# Altium footprint library BTM222.PcbLib: 1 footprints
Each footprint in its own frame and in the unit in brackets; x right, y up, seen from the top. Pads: shape width x height; smd on the part's side, far side on the other; paste and mask are expansions set on the pad; w line width, h text height; cw(c..) or ccw(c..) is an arc to the next point about the centre after c.
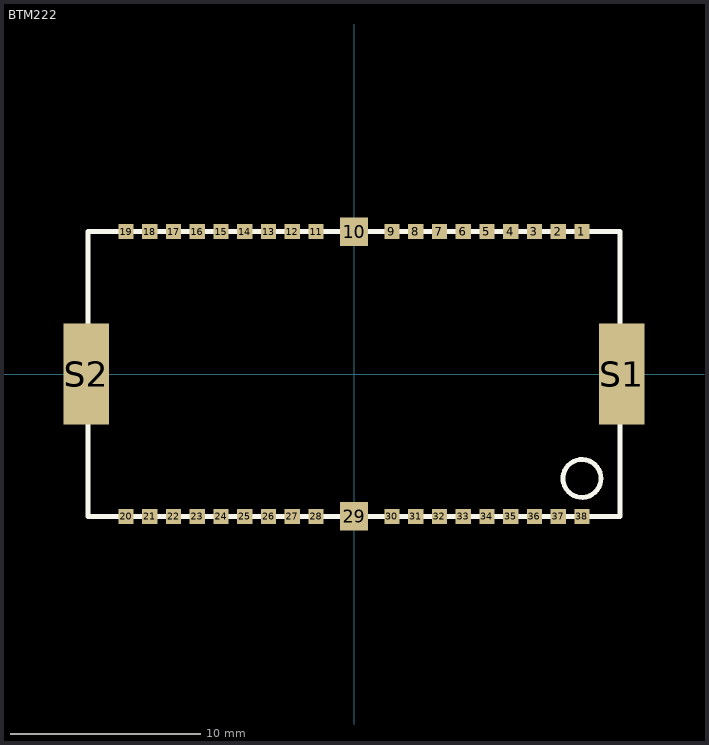
[diagram p0: the footprint, top view; thin cyan lines are the x and y axes]

## BTM222 [mm]
pads (40):
  rect 0.8x0.8 smd: 1(12,7.5) 2(10.75,7.5) 3(9.5,7.5) 4(8.25,7.5) 5(7,7.5) 6(5.75,7.5) 7(4.5,7.5) 8(3.25,7.5) 9(2,7.5) 11(-2,7.5) 12(-3.25,7.5) 13(-4.5,7.5) 14(-5.75,7.5) 15(-7,7.5) 16(-8.25,7.5) 17(-9.5,7.5) 18(-10.75,7.5) 19(-12,7.5) 20(-12,-7.5) 21(-10.75,-7.5) 22(-9.5,-7.5) 23(-8.25,-7.5) 24(-7,-7.5) 25(-5.75,-7.5) 26(-4.5,-7.5) 27(-3.25,-7.5) 28(-2,-7.5) 30(2,-7.5) 31(3.25,-7.5) 32(4.5,-7.5) 33(5.75,-7.5) 34(7,-7.5) 35(8.25,-7.5) 36(9.5,-7.5) 37(10.75,-7.5) 38(12,-7.5)
  rect 1.5x1.5 smd: 10(0,7.5) 29(0,-7.5)
  rect 2.4x5.3 smd: S1(14.1,0) S2(-14.1,0)
Top Overlay:
  circle w0.254: c12,-5.5 r1
  lines w0.254: -14,-7.5 14,-7.5 14,7.5 -14,7.5 -14,-7.5
3D body: height 2.8, standoff -0.05, extent -14.15,-7.5 14.15,7.6